# Altium footprint library PcbLib1.PcbLib: 7 footprints
Each footprint in its own frame and in the unit in brackets; x right, y up, seen from the top. Pads: shape width x height; smd on the part's side, far side on the other; paste and mask are expansions set on the pad; w line width, h text height; cw(c..) or ccw(c..) is an arc to the next point about the centre after c.
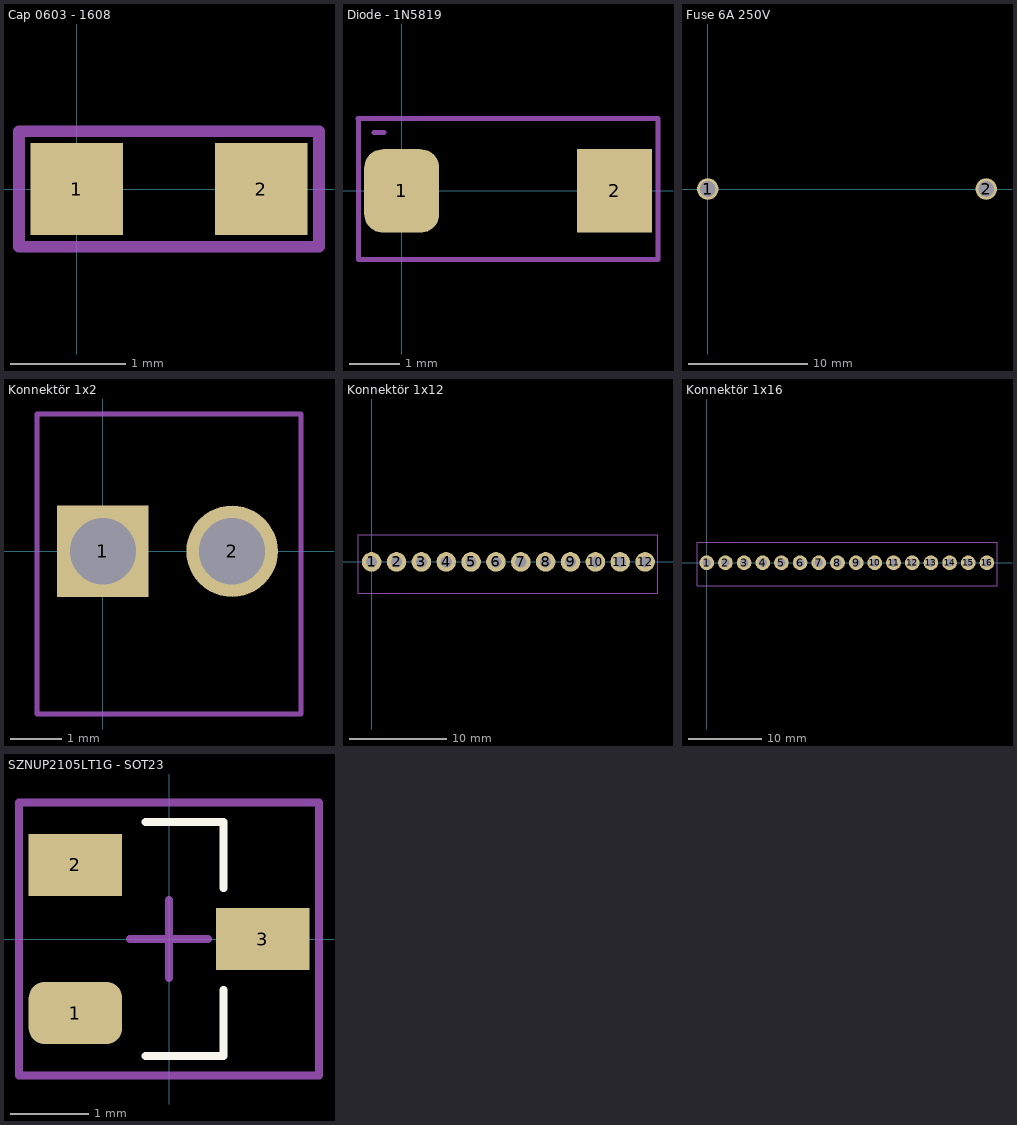
[diagram p0: the footprints below, top view; thin cyan lines are the x and y axes]

## Cap 0603 - 1608 [mm]
pads (2):
  rect 0.8x0.8 smd mask+0.05: 1(0,0) 2(1.6,0)
Mechanical 3:
  lines w0.1: -0.5,-0.5 -0.5,0.5 2.1,0.5 2.1,-0.5 -0.5,-0.5
3D body "vj0603a101jxbt.stp": height 0.46, standoff 0.01, extent 0,-0.4 1.6,0.4

## Diode - 1N5819 [mm]
pads (2):
  rrect50% 1.5x1.67 smd mask+0.05: 1(0,0)
  rect 1.5x1.67 smd mask+0.05: 2(4.256,0)
Mechanical 3:
  lines w0.1: -0.875,1.448 5.125,1.448 5.125,-1.372 -0.864,-1.372 -0.864,0.051 -0.864,1.449 ; -0.556,1.168 -0.356,1.168
3D body "User Library-Diode Molded Body.STEP": height 2.38, standoff 0.07, extent -0.265,-1.299 4.735,1.401

## Fuse 6A 250V [mm]
pads (2):
  round 1.8 hole 1.3: 1(0,0) 2(23.292,0)
3D body "User Library-5x20mm PCB Fuse Holder Assy_ 1.STEP": height 14.97, standoff -3.38, extent -0.305,-4.525 23.945,4.475

## Konnektör 1x2 [mm]
pads (2):
  rect 1.8x1.8 hole 1.3: 1(0,0)
  round 1.8 hole 1.3: 2(2.54,0)
Mechanical 3:
  lines w0.1: -1.3,-3.2 3.9,-3.2 3.9,2.7 -1.3,2.7 -1.3,-3.2
3D body "c-640456-2-aa-3d.stp": height 9.4, standoff -4.19, extent -1.245,-3.173 3.835,2.669

## Konnektör 1x12 [mm]
pads (12):
  round 2 hole 1.14: 1(0,0) 2(2.54,0) 3(5.08,0) 4(7.62,0) 5(10.16,0) 6(12.7,0) 7(15.24,0) 8(17.78,0) 9(20.32,0) 10(22.86,0) 11(25.4,0) 12(27.94,0)
Mechanical 3:
  lines w0.1: -1.397,-3.2 29.261,-3.2 29.261,2.769 -1.397,2.769 -1.397,-3.2
3D body "c-640456-2-aa-3d.stp": height 9.4, standoff -4.19, extent 24.13,-3.137 29.21,2.705
3D body "c-640456-2-aa-3d.stp": height 9.4, standoff -4.19, extent 19.05,-3.137 24.13,2.705
3D body "c-640456-2-aa-3d.stp": height 9.4, standoff -4.19, extent 13.974,-3.14 19.054,2.702
3D body "c-640456-2-aa-3d.stp": height 9.4, standoff -4.19, extent 8.869,-3.14 13.949,2.702
3D body "c-640456-2-aa-3d.stp": height 9.4, standoff -4.19, extent 3.738,-3.14 8.818,2.702
3D body "c-640456-2-aa-3d.stp": height 9.4, standoff -4.19, extent -1.34,-3.142 3.74,2.7

## Konnektör 1x16 [mm]
pads (16):
  round 2 hole 1.14: 1(0,0) 2(2.54,0) 3(5.08,0) 4(7.62,0) 5(10.16,0) 6(12.7,0) 7(15.24,0) 8(17.78,0) 9(20.32,0) 10(22.86,0) 11(25.4,0) 12(27.94,0) 13(30.48,0) 14(33.02,0) 15(35.56,0) 16(38.1,0)
Mechanical 3:
  lines w0.1: -1.321,-3.15 39.471,-3.15 39.472,-3.15 39.472,-3.099 39.472,2.819 -1.321,2.819 -1.321,-3.15
3D body "c-640456-2-aa-3d.stp": height 9.4, standoff -4.19, extent 29.286,-3.086 34.366,2.756
3D body "c-640456-2-aa-3d.stp": height 9.4, standoff -4.19, extent 34.366,-3.086 39.446,2.756
3D body "c-640456-2-aa-3d.stp": height 9.4, standoff -4.19, extent -1.264,-3.091 3.816,2.751
3D body "c-640456-2-aa-3d.stp": height 9.4, standoff -4.19, extent 3.814,-3.089 8.894,2.753
3D body "c-640456-2-aa-3d.stp": height 9.4, standoff -4.19, extent 8.945,-3.089 14.025,2.753
3D body "c-640456-2-aa-3d.stp": height 9.4, standoff -4.19, extent 14.051,-3.089 19.131,2.753
3D body "c-640456-2-aa-3d.stp": height 9.4, standoff -4.19, extent 19.126,-3.086 24.206,2.756
3D body "c-640456-2-aa-3d.stp": height 9.4, standoff -4.19, extent 24.206,-3.086 29.286,2.756

## SZNUP2105LT1G - SOT23 [mm] "SOT23, 3-Leads, Body 2,92x2,45mm, Pitch 0,95mm, IPC Medium Density"
height 1
pads (3):
  rrect50% 1.2x0.8 smd: 1(-1.2,-0.95)
  rect 1.2x0.8 smd: 2(-1.2,0.95) 3(1.2,0)
Top Overlay:
  lines w0.1: -0.3,-1.5 0.7,-1.5 0.7,-0.65 ; -0.3,1.5 0.7,1.5 0.7,0.65
Mechanical 3:
  lines w0.1: -0.5,0 0.5,0 ; 0,-0.5 0,0.5 ; -1.925,-1.75 1.925,-1.75 1.925,1.75 -1.925,1.75 -1.925,-1.75
3D body "SOT23 - SZNUP2105LT1G.step": height 1, standoff 0, extent -1.4,-1.52 1.4,1.52